# EAGLE library part FEATHER_WING_OLED (library picoKey)
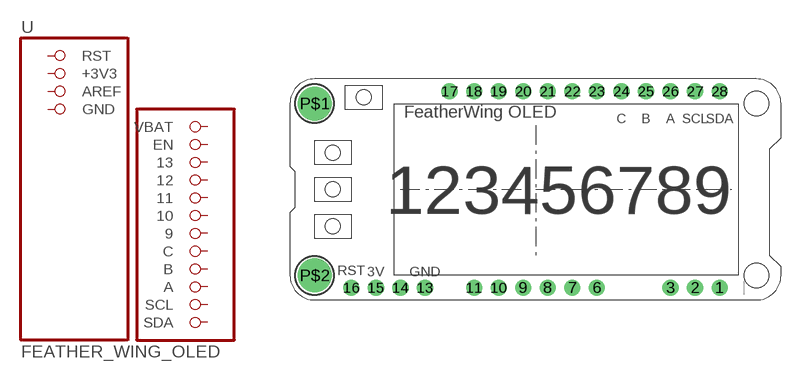
[diagram p3: symbol with the pads of FEATHER_WING_OLED; footprint FEATHER_WING_OLED]

Designator prefix U

## FEATHER_WING_OLED  [FEATHER_WING_OLED]
13  GND  pas
14  AREF  pas
15  +3V3  pas
16  RST  pas
17  VBAT  pas
18  EN  pas
19  13  pas
20  12  pas
21  11  pas
22  10  pas
23  9  pas
24  C  pas
25  B  pas
26  A  pas
27  SCL  pas
28  SDA  pas

## Footprint FEATHER_WING_OLED (pad centres in mm)
PIN HEADER
drill 1 pad 1.676: 1 -1.27,0; 2 -3.81,0; 3 -6.35,0; 6 -13.97,0; 7 -16.51,0; 8 -19.05,0; 9 -21.59,0; 10 -24.13,0; 11 -26.67,0; 13 -31.75,0; 14 -34.29,0; 15 -36.83,0; 16 -39.37,0; 17 -29.21,20.32; 18 -26.67,20.32; 19 -24.13,20.32; 20 -21.59,20.32; 21 -19.05,20.32; 22 -16.51,20.32; 23 -13.97,20.32; 24 -11.43,20.32; 25 -8.89,20.32; 26 -6.35,20.32; 27 -3.81,20.32; 28 -1.27,20.32
drill 2.5 pad 3.2: P$1 -43.18,19.05; P$2 -43.18,1.27
hole 2.54 at 2.54,19.05
hole 2.54 at 2.54,1.27